# Altium schematic symbol library New.SchLib: 1 symbol
Pins are listed as number, name and electrical type; pins without a type are passive.

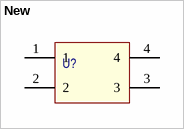
[diagram p0: symbol New]

## New
designator U?
pins: 1, 2, 3, 4